# Altium integrated library Celestial Library.IntLib: 439 symbols (part 2 of 20)

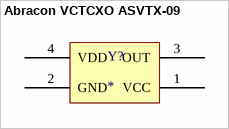
[diagram p23: symbol Abracon VCTCXO ASVTX-09]

## Abracon VCTCXO ASVTX-09
designator Y?
SMD CMOS Crystal Oscillator
pins: 1 VCC, 2 GND, 3 OUT, 4 VDD


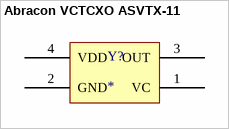
[diagram p24: symbol Abracon VCTCXO ASVTX-11]

## Abracon VCTCXO ASVTX-11
designator Y?
SMD CMOS Crystal Oscillator
pins: 1 VC, 2 GND, 3 OUT, 4 VDD


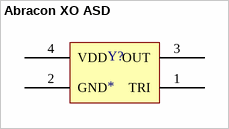
[diagram p25: symbol Abracon XO ASD]

## Abracon XO ASD
designator Y?
SMD CMOS Crystal Oscillator
pins: 1 TRI, 2 GND, 3 OUT, 4 VDD


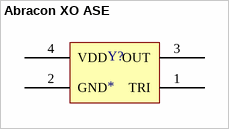
[diagram p26: symbol Abracon XO ASE]

## Abracon XO ASE
designator Y?
SMD CMOS Crystal Oscillator
pins: 1 TRI, 2 GND, 3 OUT, 4 VDD


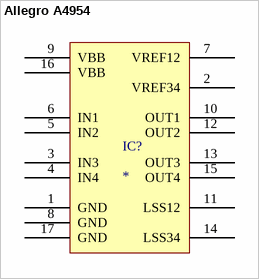
[diagram p27: symbol Allegro A4954]

## Allegro A4954
designator IC?
pins: 1 GND, 2 VREF34, 3 IN3, 4 IN4, 5 IN2, 6 IN1, 7 VREF12, 8 GND, 9 VBB, 10 OUT1, 11 LSS12, 12 OUT2, 13 OUT3, 14 LSS34, 15 OUT4, 16 VBB, 17 GND


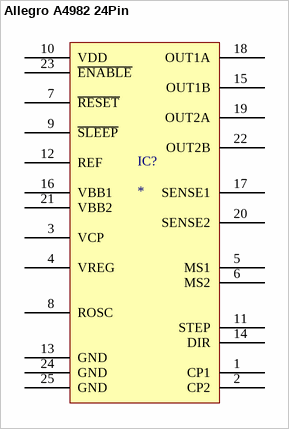
[diagram p28: symbol Allegro A4982 24Pin]

## Allegro A4982 24Pin
designator IC?
pins: 1 CP1, 2 CP2, 3 VCP, 4 VREG, 5 MS1, 6 MS2, 7 ~{RESET}, 8 ROSC, 9 ~{SLEEP}, 10 VDD, 11 STEP, 12 REF, 13 GND, 14 DIR, 15 OUT1B, 16 VBB1, 17 SENSE1, 18 OUT1A, 19 OUT2A, 20 SENSE2, 21 VBB2, 22 OUT2B, 23 ~{ENABLE}, 24 GND, 25 GND


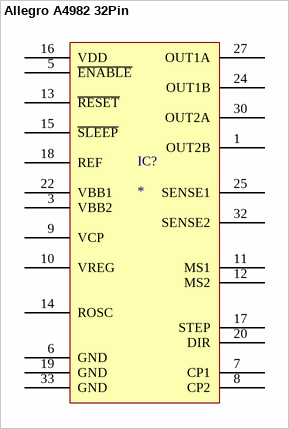
[diagram p29: symbol Allegro A4982 32Pin]

## Allegro A4982 32Pin
designator IC?
pins: 1 OUT2B, 3 VBB2, 5 ~{ENABLE}, 6 GND, 7 CP1, 8 CP2, 9 VCP, 10 VREG, 11 MS1, 12 MS2, 13 ~{RESET}, 14 ROSC, 15 ~{SLEEP}, 16 VDD, 17 STEP, 18 REF, 19 GND, 20 DIR, 22 VBB1, 24 OUT1B, 25 SENSE1, 27 OUT1A, 30 OUT2A, 32 SENSE2, 33 GND


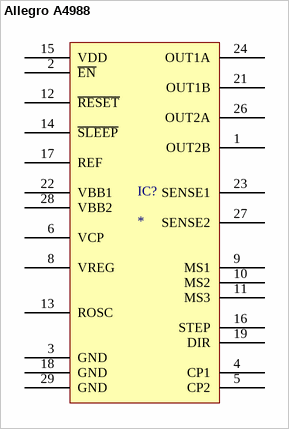
[diagram p30: symbol Allegro A4988]

## Allegro A4988
designator IC?
pins: 1 OUT2B, 2 ~{EN}, 3 GND, 4 CP1, 5 CP2, 6 VCP, 8 VREG, 9 MS1, 10 MS2, 11 MS3, 12 ~{RESET}, 13 ROSC, 14 ~{SLEEP}, 15 VDD, 16 STEP, 17 REF, 18 GND, 19 DIR, 21 OUT1B, 22 VBB1, 23 SENSE1, 24 OUT1A, 26 OUT2A, 27 SENSE2, 28 VBB2, 29 GND


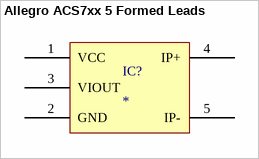
[diagram p31: symbol Allegro ACS7xx 5 Formed Leads]

## Allegro ACS7xx 5 Formed Leads
designator IC?
pins: 1 VCC, 2 GND, 3 VIOUT, 4 IP+, 5 IP-


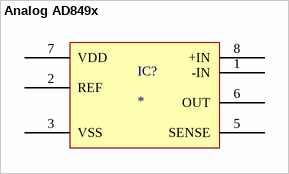
[diagram p32: symbol Analog AD849x]

## Analog AD849x
designator IC?
pins: 1 -IN, 2 REF, 3 VSS, 5 SENSE, 6 OUT, 7 VDD, 8 +IN


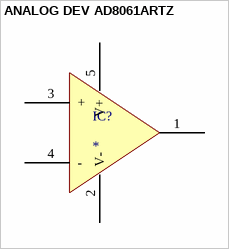
[diagram p33: symbol ANALOG DEV AD8061ARTZ]

## ANALOG DEV AD8061ARTZ
designator IC?
pins: 1 OUT, 2 V-, 3 +, 4 -, 5 V+


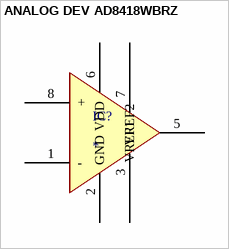
[diagram p34: symbol ANALOG DEV AD8418WBRZ]

## ANALOG DEV AD8418WBRZ
designator IC?
pins: 1 -, 2 GND, 3 VREF2, 5 OUT, 6 VDD, 7 VREF1, 8 +


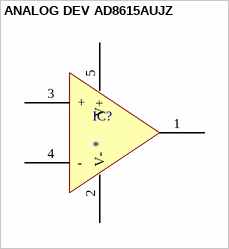
[diagram p35: symbol ANALOG DEV AD8615AUJZ]

## ANALOG DEV AD8615AUJZ
designator IC?
pins: 1 OUT, 2 V-, 3 +, 4 -, 5 V+


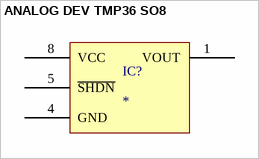
[diagram p36: symbol ANALOG DEV TMP36 SO8]

## ANALOG DEV TMP36 SO8
designator IC?
pins: 1 VOUT, 4 GND, 5 ~{SHDN}, 8 VCC


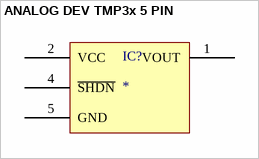
[diagram p37: symbol ANALOG DEV TMP3x 5 PIN]

## ANALOG DEV TMP3x 5 PIN
designator IC?
pins: 1 VOUT, 2 VCC, 4 ~{SHDN}, 5 GND


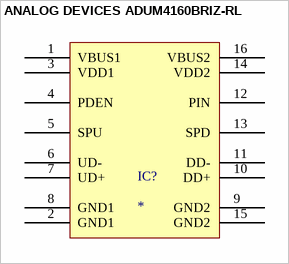
[diagram p38: symbol ANALOG DEVICES ADUM4160BRIZ-RL]

## ANALOG DEVICES ADUM4160BRIZ-RL
designator IC?
pins: 1 VBUS1, 2 GND1, 3 VDD1, 4 PDEN, 5 SPU, 6 UD-, 7 UD+, 8 GND1, 9 GND2, 10 DD+, 11 DD-, 12 PIN, 13 SPD, 14 VDD2, 15 GND2, 16 VBUS2


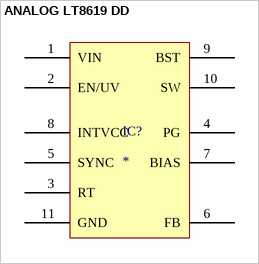
[diagram p39: symbol ANALOG LT8619 DD]

## ANALOG LT8619 DD
designator IC?
60V, 1.2A Synchronous Monolithic Buck Regulator with 6µA Quiescent Current
pins: 1 VIN, 2 EN/UV, 3 RT, 4 PG, 5 SYNC, 6 FB, 7 BIAS, 8 INTVCC, 9 BST, 10 SW, 11 GND


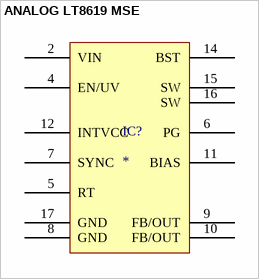
[diagram p40: symbol ANALOG LT8619 MSE]

## ANALOG LT8619 MSE
designator IC?
60V, 1.2A Synchronous Monolithic Buck Regulator with 6µA Quiescent Current
pins: 2 VIN, 4 EN/UV, 5 RT, 6 PG, 7 SYNC, 8 GND, 9 FB/OUT, 10 FB/OUT, 11 BIAS, 12 INTVCC, 14 BST, 15 SW, 16 SW, 17 GND


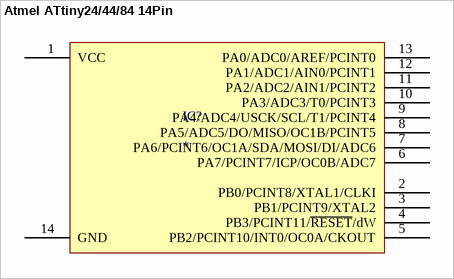
[diagram p41: symbol Atmel ATtiny24/44/84 14Pin]

## Atmel ATtiny24/44/84 14Pin
designator IC?
8-bit  Microcontroller  with 2K/4K/8K  Bytes In-System  Programmable  Flash
pins: 1 VCC, 2 PB0/PCINT8/XTAL1/CLKI, 3 PB1/PCINT9/XTAL2, 4 PB3/PCINT11/~{RESET}/dW, 5 PB2/PCINT10/INT0/OC0A/CKOUT, 6 PA7/PCINT7/ICP/OC0B/ADC7, 7 PA6/PCINT6/OC1A/SDA/MOSI/DI/ADC6, 8 PA5/ADC5/DO/MISO/OC1B/PCINT5, 9 PA4/ADC4/USCK/SCL/T1/PCINT4, 10 PA3/ADC3/T0/PCINT3, 11 PA2/ADC2/AIN1/PCINT2, 12 PA1/ADC1/AIN0/PCINT1, 13 PA0/ADC0/AREF/PCINT0, 14 GND


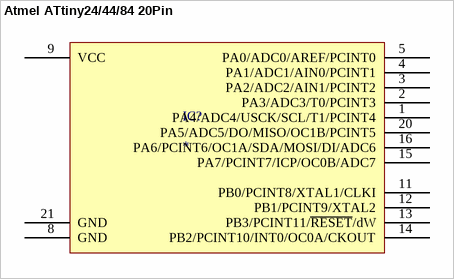
[diagram p42: symbol Atmel ATtiny24/44/84 20Pin]

## Atmel ATtiny24/44/84 20Pin
designator IC?
8-bit  Microcontroller  with 2K/4K/8K  Bytes In-System  Programmable  Flash
pins: 1 PA4/ADC4/USCK/SCL/T1/PCINT4, 2 PA3/ADC3/T0/PCINT3, 3 PA2/ADC2/AIN1/PCINT2, 4 PA1/ADC1/AIN0/PCINT1, 5 PA0/ADC0/AREF/PCINT0, 8 GND, 9 VCC, 11 PB0/PCINT8/XTAL1/CLKI, 12 PB1/PCINT9/XTAL2, 13 PB3/PCINT11/~{RESET}/dW, 14 PB2/PCINT10/INT0/OC0A/CKOUT, 15 PA7/PCINT7/ICP/OC0B/ADC7, 16 PA6/PCINT6/OC1A/SDA/MOSI/DI/ADC6, 20 PA5/ADC5/DO/MISO/OC1B/PCINT5, 21 GND


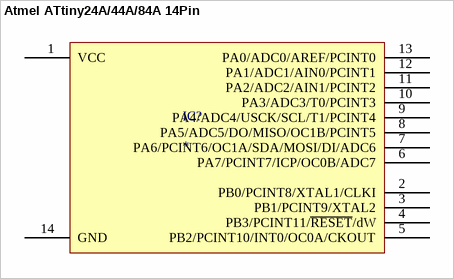
[diagram p43: symbol Atmel ATtiny24A/44A/84A 14Pin]

## Atmel ATtiny24A/44A/84A 14Pin
designator IC?
8-bit  Microcontroller  with 2K/4K/8K  Bytes In-System  Programmable  Flash
pins: 1 VCC, 2 PB0/PCINT8/XTAL1/CLKI, 3 PB1/PCINT9/XTAL2, 4 PB3/PCINT11/~{RESET}/dW, 5 PB2/PCINT10/INT0/OC0A/CKOUT, 6 PA7/PCINT7/ICP/OC0B/ADC7, 7 PA6/PCINT6/OC1A/SDA/MOSI/DI/ADC6, 8 PA5/ADC5/DO/MISO/OC1B/PCINT5, 9 PA4/ADC4/USCK/SCL/T1/PCINT4, 10 PA3/ADC3/T0/PCINT3, 11 PA2/ADC2/AIN1/PCINT2, 12 PA1/ADC1/AIN0/PCINT1, 13 PA0/ADC0/AREF/PCINT0, 14 GND


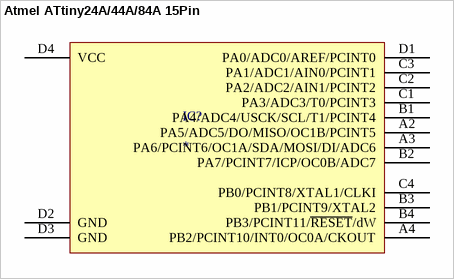
[diagram p44: symbol Atmel ATtiny24A/44A/84A 15Pin]

## Atmel ATtiny24A/44A/84A 15Pin
designator IC?
8-bit  Microcontroller  with 2K/4K/8K  Bytes In-System  Programmable  Flash
pins: A2 PA5/ADC5/DO/MISO/OC1B/PCINT5, A3 PA6/PCINT6/OC1A/SDA/MOSI/DI/ADC6, A4 PB2/PCINT10/INT0/OC0A/CKOUT, B1 PA4/ADC4/USCK/SCL/T1/PCINT4, B2 PA7/PCINT7/ICP/OC0B/ADC7, B3 PB1/PCINT9/XTAL2, B4 PB3/PCINT11/~{RESET}/dW, C1 PA3/ADC3/T0/PCINT3, C2 PA2/ADC2/AIN1/PCINT2, C3 PA1/ADC1/AIN0/PCINT1, C4 PB0/PCINT8/XTAL1/CLKI, D1 PA0/ADC0/AREF/PCINT0, D2 GND, D3 GND, D4 VCC


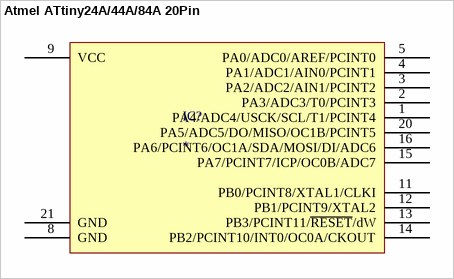
[diagram p45: symbol Atmel ATtiny24A/44A/84A 20Pin]

## Atmel ATtiny24A/44A/84A 20Pin
designator IC?
8-bit  Microcontroller  with 2K/4K/8K  Bytes In-System  Programmable  Flash
pins: 1 PA4/ADC4/USCK/SCL/T1/PCINT4, 2 PA3/ADC3/T0/PCINT3, 3 PA2/ADC2/AIN1/PCINT2, 4 PA1/ADC1/AIN0/PCINT1, 5 PA0/ADC0/AREF/PCINT0, 8 GND, 9 VCC, 11 PB0/PCINT8/XTAL1/CLKI, 12 PB1/PCINT9/XTAL2, 13 PB3/PCINT11/~{RESET}/dW, 14 PB2/PCINT10/INT0/OC0A/CKOUT, 15 PA7/PCINT7/ICP/OC0B/ADC7, 16 PA6/PCINT6/OC1A/SDA/MOSI/DI/ADC6, 20 PA5/ADC5/DO/MISO/OC1B/PCINT5, 21 GND
